# Altium footprint library 3528 tantalum.PcbLib: 1 footprints
Each footprint in its own frame and in the unit in brackets; x right, y up, seen from the top. Pads: shape width x height; smd on the part's side, far side on the other; paste and mask are expansions set on the pad; w line width, h text height; cw(c..) or ccw(c..) is an arc to the next point about the centre after c.
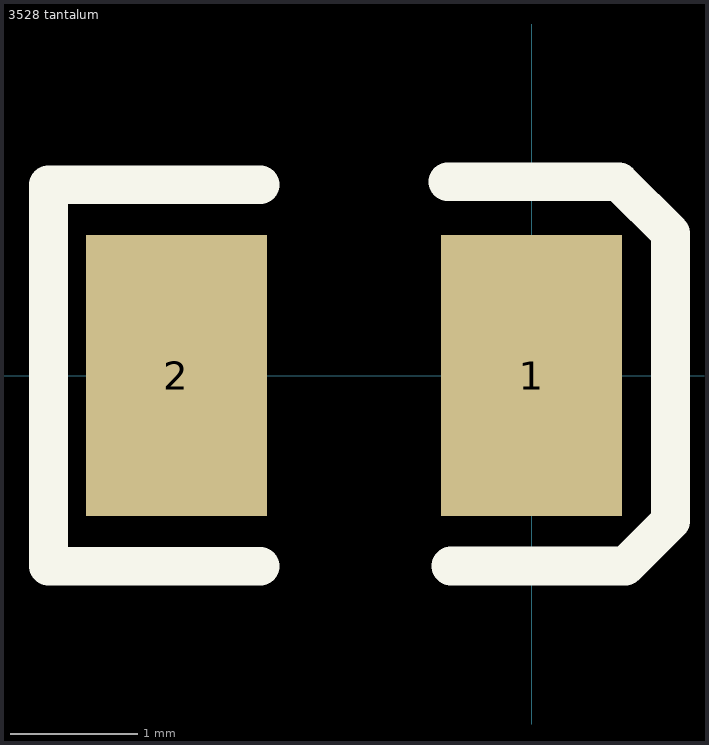
[diagram p0: the footprint, top view; thin cyan lines are the x and y axes]

## 3528 tantalum [mil]
height 80
pads (2):
  rect 56x87 smd: 1(0,0) 2(-110,0)
TopOverlay:
  lines w12: -84,-59.06 -149.61,-59 -149.61,59.06 -84,59.06 ; -26,60 27,60 43,44 43,-45 29,-59 -25,-59
Mechanical4:
  text ".1" at 0,0 h1
3D body: height 83.6, standoff -0.8, extent -153.09,-58.9 43.71,59.1